# EAGLE library part ATTINY22 (library atmel)
8-bit AVR tiny Microcontroller Status obsolete/discontinued ATtiny22 ATtiny22L General purpose working registers 32 SRAM 128 B Program flash memory 2 kB EEPROM 128 B 8-bit Timer/Counter 1 SPI 1 Watchdog 1 General purpose I/O 5 External interrupts 1 Operating voltage 4.0 ... 6.0 V 2.7 ... 6.0 V Speed grade 0 ... 8 MHz 0 ... 4 MHz Clock options internal 1 MHz RC oscillator external clock input
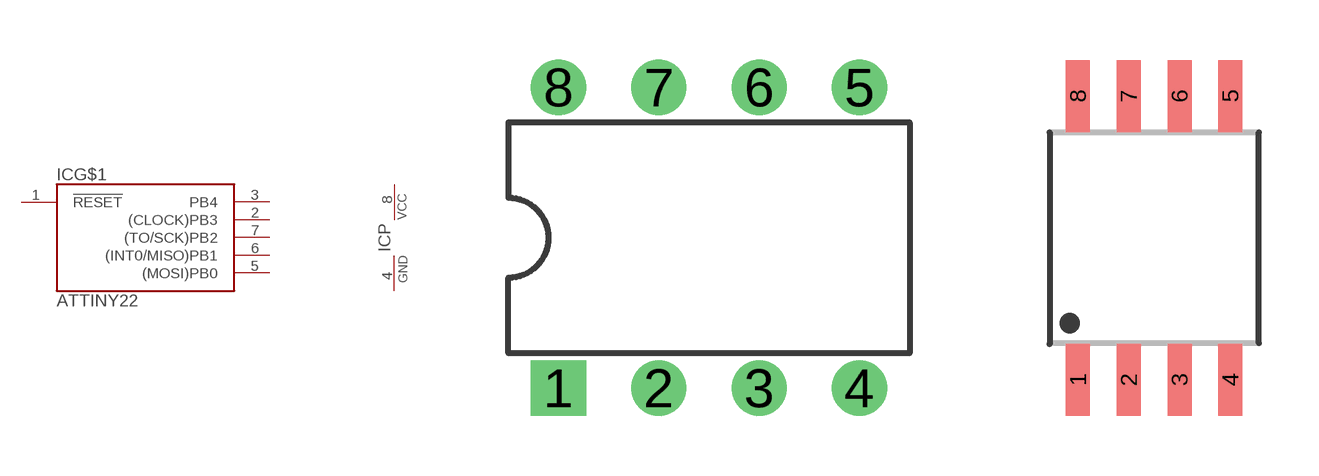
[diagram p73: symbol with the pads of DIL08; footprints DIL08, 8S2]

Designator prefix IC; gates G$1=5-I/O-1 P=PWR

## ATTINY22-8PC, ATTINY22L-4PC  [DIL08]
1  G$1:!RESET  in
2  G$1:(CLOCK)PB3
3  G$1:PB4
4  P:GND  pwr
5  G$1:(MOSI)PB0
6  G$1:(INT0/MISO)PB1
7  G$1:(TO/SCK)PB2
8  P:VCC  pwr

## ATTINY22-8SC, ATTINY22L-4SC  [8S2]
Pads as for DIL08

## Footprint DIL08 (pad centres in mm)
DIL package, pin row distance 300mil
drill 0.8 pad 1.4 square: 1 -3.81,-3.81
drill 0.8 pad 1.4: 2 -1.27,-3.81; 3 1.27,-3.81; 4 3.81,-3.81; 5 3.81,3.81; 6 1.27,3.81; 7 -1.27,3.81; 8 -3.81,3.81

## Footprint 8S2 (pad centres in mm)
8 leads Plastic Small Outline Package, 208mil body width, 50mil lead pitch JEDEC: Atmel: 8S2 Texas Instruments: PS (R-PDSO-G8)
smd 0.6 x 1.8: 1 -1.905,-3.55; 2 -0.635,-3.55; 3 0.635,-3.55; 4 1.905,-3.55; 5 1.905,3.55; 6 0.635,3.55; 7 -0.635,3.55; 8 -1.905,3.55